# EAGLE library part MOLEX529910208 (library NicksParts)
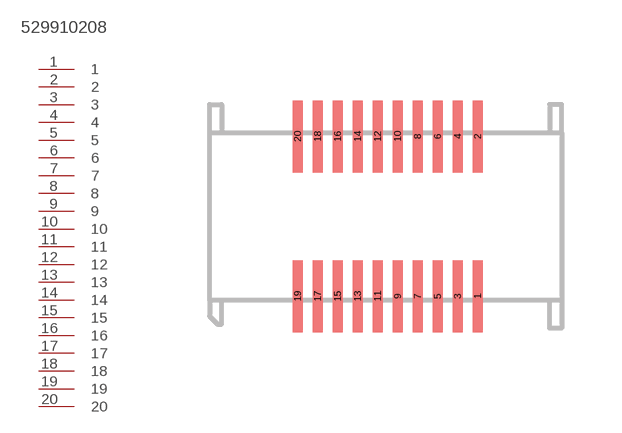
[diagram p4: symbol with the pads of 529910208; footprint 529910208]

Designator prefix -

## MOLEX529910208  [529910208]
1  1
2  2
3  3
4  4
5  5
6  6
7  7
8  8
9  9
10  10
11  11
12  12
13  13
14  14
15  15
16  16
17  17
18  18
19  19
20  20

## Footprint 529910208 (pad centres in mm)
smd 0.25 x 1.8: 1 2.3,-2; 2 2.3,2; 3 1.8,-2; 4 1.8,2; 5 1.3,-2; 6 1.3,2; 7 0.8,-2; 8 0.8,2; 9 0.3,-2; 10 0.3,2; 11 -0.2,-2; 12 -0.2,2; 13 -0.7,-2; 14 -0.7,2; 15 -1.2,-2; 16 -1.2,2; 17 -1.7,-2; 18 -1.7,2; 19 -2.2,-2; 20 -2.2,2